# Altium footprint library 7621_cmp.PcbLib: 33 footprints (part 2 of 3)
Each footprint in its own frame and in the unit in brackets; x right, y up, seen from the top. Pads: shape width x height; smd on the part's side, far side on the other; paste and mask are expansions set on the pad; w line width, h text height; cw(c..) or ccw(c..) is an arc to the next point about the centre after c.
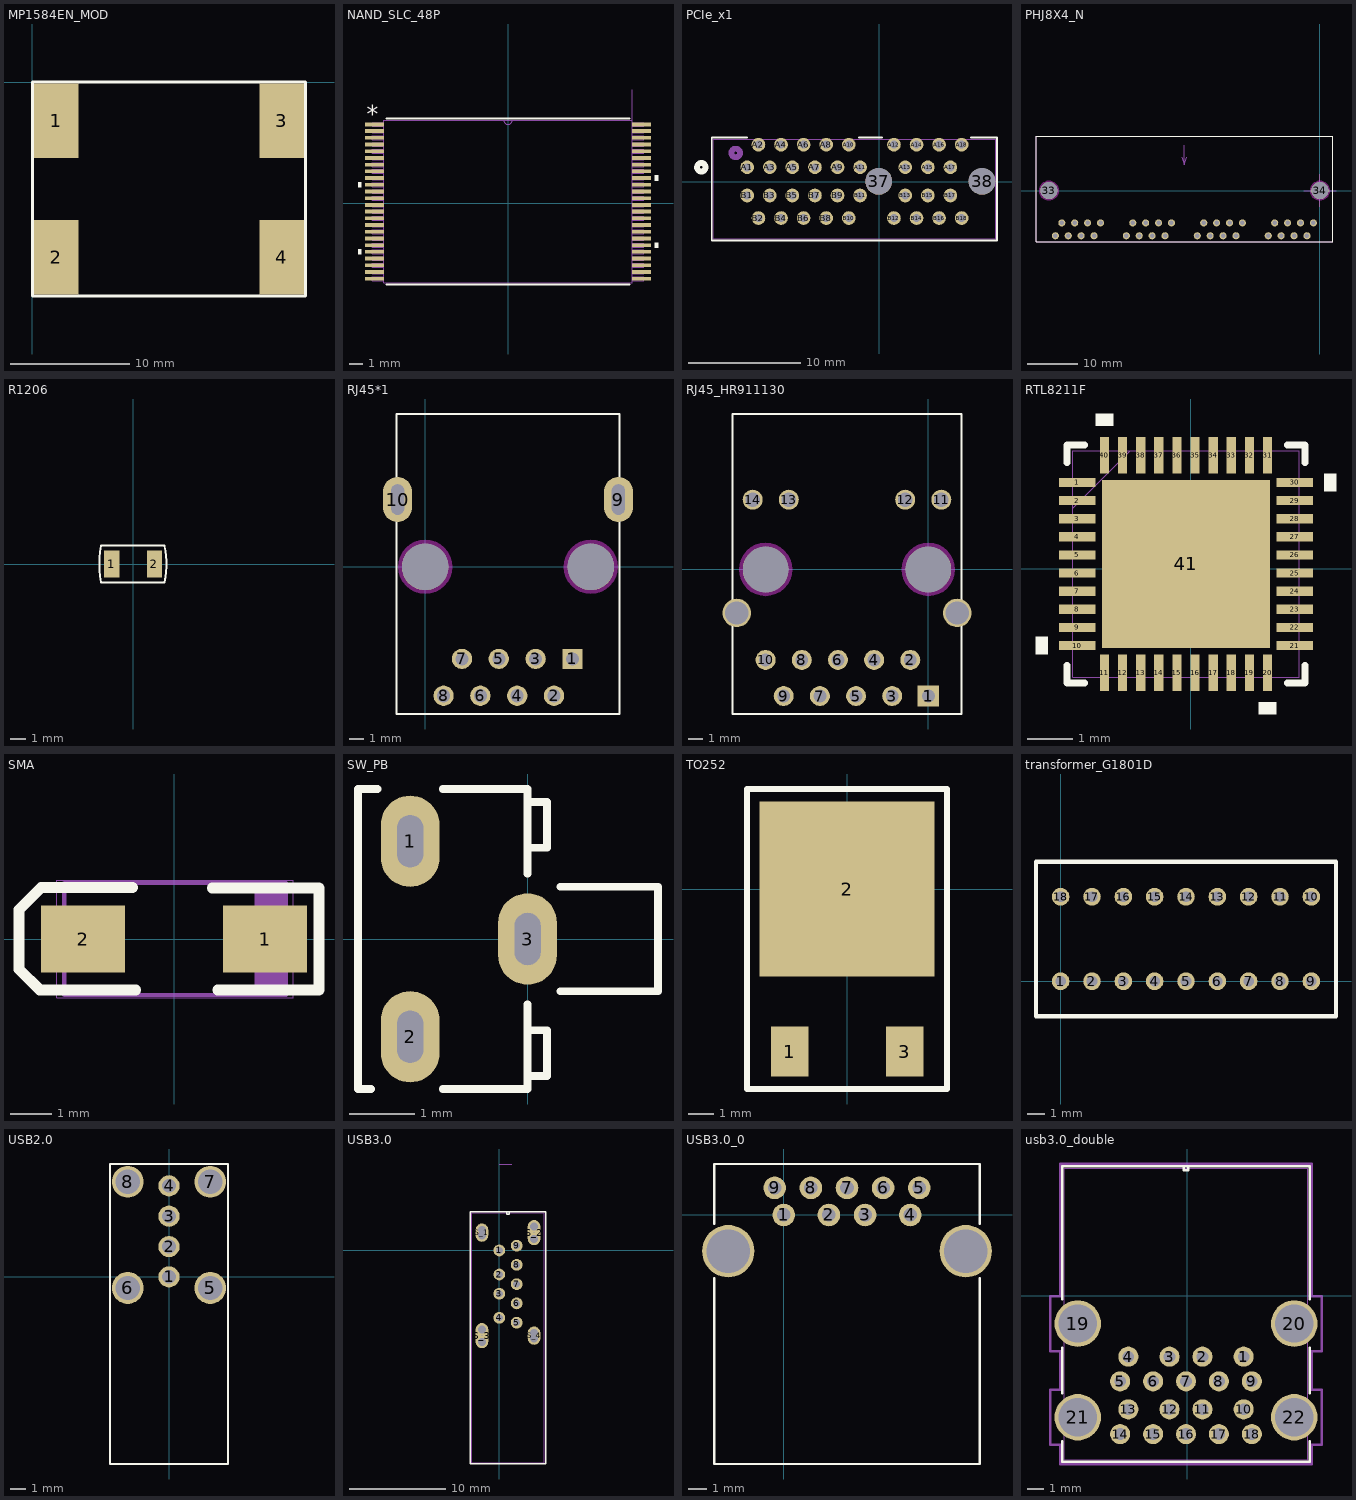
[diagram p1: the footprints below, top view; thin cyan lines are the x and y axes]

## MP1584EN_MOD [mm]
pads (4):
  rect 3.75x6.25 smd paste+0 mask+0: 1(2,-3.25) 2(2,-14.75) 3(21,-3.25) 4(21,-14.75)
Top Overlay:
  lines w0.254: 0,-18 0,0 23,0 23,-18 0,-18

## NAND_SLC_48P [mil]
pads (48):
  rect 56.15x11 smd paste+0 mask+0: 1(-392.08,231.38) 2(-392.08,211.69) 3(-392.08,192.01) 4(-392.08,172.32) 5(-392.08,152.64) 6(-392.08,132.95) 7(-392.08,113.27) 8(-392.08,93.58) 9(-392.08,73.9) 10(-392.08,54.21) 11(-392.08,34.53) 12(-392.08,14.84) 13(-392.08,-4.84) 14(-392.08,-24.53) 15(-392.08,-44.21) 16(-392.08,-63.9) 17(-392.08,-83.58) 18(-392.08,-103.27) 19(-392.08,-122.95) 20(-392.08,-142.64) 21(-392.08,-162.32) 22(-392.08,-182.01) 23(-392.08,-201.69) 24(-392.08,-221.38) 25(392.08,-221.38) 26(392.08,-201.69) 27(392.08,-182.01) 28(392.08,-162.32) 29(392.08,-142.64) 30(392.08,-122.95) 31(392.08,-103.27) 32(392.08,-83.58) 33(392.08,-63.9) 34(392.08,-44.21) 35(392.08,-24.53) 36(392.08,-4.84) 37(392.08,14.84) 38(392.08,34.53) 39(392.08,54.21) 40(392.08,73.9) 41(392.08,93.58) 42(392.08,113.27) 43(392.08,132.95) 44(392.08,152.64) 45(392.08,172.32) 46(392.08,192.01) 47(392.08,211.69) 48(392.08,231.38)
Top Overlay:
  region: -430.15,61.71 -440.15,61.71 -440.15,46.71 -430.15,46.71
  region: -430.15,-135.14 -440.15,-135.14 -440.15,-150.14 -430.15,-150.14
  region: 430.15,-115.45 440.15,-115.45 440.15,-130.45 430.15,-130.45
  region: 430.15,81.4 440.15,81.4 440.15,66.4 430.15,66.4
  lines w6: -357.08,-238 357.08,-238 ; -357.08,248 357.08,248
  text "*" at -414.58,237.38 h50
Mechanical 7:
  lines w1: 364,5 364,333
Mechanical 13:
  drawing of 197 lines, arcs and shapes, not listed
3D body: height 10, standoff 0, extent 0,5 10,15

## PCIe_x1 [mm]
pads (38):
  round 2.362 hole 2.362 unplated: 37(-0.034,0.02) 38(9.116,0.02)
  round 1.21 hole 0.711 mask+0: A1(-11.684,1.27) A2(-10.684,3.27) A3(-9.684,1.27) A4(-8.684,3.27) A5(-7.684,1.27) A6(-6.684,3.27) A7(-5.684,1.27) A8(-4.684,3.27) A9(-3.684,1.27) A10(-2.684,3.27) A11(-1.684,1.27) A12(1.316,3.27) A13(2.316,1.27) A14(3.316,3.27) A15(4.316,1.27) A16(5.316,3.27) A17(6.316,1.27) A18(7.316,3.27) B1(-11.684,-1.23) B2(-10.684,-3.23) B3(-9.684,-1.23) B4(-8.684,-3.23) B5(-7.684,-1.23) B6(-6.684,-3.23) B7(-5.684,-1.23) B8(-4.684,-3.23) B9(-3.684,-1.23) B10(-2.684,-3.23) B11(-1.684,-1.23) B12(1.316,-3.23) B13(2.316,-1.23) B14(3.316,-3.23) B15(4.316,-1.23) B16(5.316,-3.23) B17(6.316,-1.23) B18(7.316,-3.23)
Top Overlay:
  circle w0.508: c-15.748,1.27 r0.381
  lines w0.152: -11.684,3.897 -14.811,3.897 -14.811,-5.207 10.443,-5.207 10.443,3.897 8.145,3.897 ; -1.778,3.897 0.254,3.897
Bottom Overlay:
  circle w0.508: c-15.748,1.27 r0.381
Mechanical 13:
  circle w0.508: c-12.7,2.54 r0.381
  lines w0.025: -14.684,-5.08 -14.684,3.77 10.316,3.77 10.316,-5.08 -14.684,-5.08
3D body: height 0.25, standoff 0, extent -11.684,1.27 -11.43,1.524

## PHJ8X4_N [mil]
height 525
pads (34):
  round 55 hole 35: 1(-50,-250) 2(-100,-350) 3(-150,-250) 4(-200,-350) 5(-250,-250) 6(-300,-350) 7(-350,-250) 8(-400,-350) 9(-600,-250) 10(-650,-350) 11(-700,-250) 12(-750,-350) 13(-800,-250) 14(-850,-350) 15(-900,-250) 16(-950,-350) 17(-1150,-250) 18(-1200,-350) 19(-1250,-250) 20(-1300,-350) 21(-1350,-250) 22(-1400,-350) 23(-1450,-250) 24(-1500,-350) 25(-1700,-250) 26(-1750,-350) 27(-1800,-250) 28(-1850,-350) 29(-1900,-250) 30(-1950,-350) 31(-2000,-250) 32(-2050,-350)
  round 132 hole 132 unplated: 33(-2100,0) 34(0,0)
Top Overlay:
  lines w5: -2200,-395 100,-395 100,420 -2200,420 -2200,-395
Keep-Out Layer:
  pour cut-out: -2023.63,0 -2025.1,14.9 -2029.45,29.22 -2036.5,42.43 -2046,54 -2057.57,63.5 -2070.78,70.55 -2085.1,74.9 -2100,76.37 -2114.9,74.9 -2129.22,70.55 -2142.43,63.5 -2154,54 -2163.5,42.43 -2170.55,29.22 -2174.9,14.9 -2176.37,0 -2174.9,-14.9 -2170.55,-29.22 -2163.5,-42.43 -2154,-54 -2142.43,-63.5 -2129.22,-70.55 -2114.9,-74.9 -2100,-76.37 -2085.1,-74.9 -2070.78,-70.55 -2057.57,-63.5 -2046,-54 -2036.5,-42.43 -2029.45,-29.22 -2025.1,-14.9
  pour cut-out: 76.37,0 74.9,14.9 70.55,29.22 63.5,42.43 54,54 42.43,63.5 29.22,70.55 14.9,74.9 0,76.37 -14.9,74.9 -29.22,70.55 -42.43,63.5 -54,54 -63.5,42.43 -70.55,29.22 -74.9,14.9 -76.37,0 -74.9,-14.9 -70.55,-29.22 -63.5,-42.43 -54,-54 -42.43,-63.5 -29.22,-70.55 -14.9,-74.9 0,-76.37 14.9,-74.9 29.22,-70.55 42.43,-63.5 54,-54 63.5,-42.43 70.55,-29.22 74.9,-14.9
Mechanical 16:
  lines w5: -1070,260 -1050,200 ; -1050,350 -1050,200 ; -1030,260 -1050,200 ; -124.95,0 125.05,0 ; 0,-125 0,125 ; -2200,-395 -2200,420 100,420 100,-395 -2200,-395

## R1206 [mm]
height 1.2
pads (2):
  rect 1x1.8 smd: 1(-1.4,0) 2(1.4,0)
Top Overlay:
  lines w0.127: -2.1,-1.2 2.05,-1.2 ; -2.1,1.2 2.05,1.2 ; -2.1,-1.201 cw(c5,0) -2.1,1.201 ; 2.049,1.204 cw(c-2.642,0) 2.051,-1.196

## RJ45*1 [mm]
pads (12):
  rect 1.4x1.4 / inner round 1.4 / far side rect 1.4x1.4 hole 0.9: 1(10.16,-6.35)
  round 1.4 hole 0.9: 2(8.89,-8.89) 3(7.62,-6.35) 4(6.35,-8.89) 5(5.08,-6.35) 6(3.81,-8.89) 7(2.54,-6.35) 8(1.27,-8.89)
  oval 2x3.1 hole 0.9 slot 2.1 at 90 deg: 9(13.335,4.65) 10(-1.905,4.65)
  round 3.2 hole 3.2 unplated: ""(0,0) ""(11.43,0)
Top Overlay:
  lines w0.127: -1.985,-10.15 13.415,-10.15 13.415,10.55 -1.985,10.55 -1.985,-10.15
Keep-Out Layer:
  pour cut-out: 9.567,0 9.603,-0.363 9.709,-0.713 9.881,-1.035 10.113,-1.317 10.395,-1.549 10.717,-1.721 11.067,-1.827 11.43,-1.863 11.793,-1.827 12.143,-1.721 12.465,-1.549 12.747,-1.317 12.979,-1.035 13.151,-0.713 13.257,-0.363 13.293,0 13.257,0.363 13.151,0.713 12.979,1.035 12.747,1.317 12.465,1.549 12.143,1.721 11.793,1.827 11.43,1.863 11.067,1.827 10.717,1.721 10.395,1.549 10.113,1.317 9.881,1.035 9.709,0.713 9.603,0.363
  pour cut-out: -1.863,0 -1.827,-0.363 -1.721,-0.713 -1.549,-1.035 -1.317,-1.317 -1.035,-1.549 -0.713,-1.721 -0.363,-1.827 0,-1.863 0.363,-1.827 0.713,-1.721 1.035,-1.549 1.317,-1.317 1.549,-1.035 1.721,-0.713 1.827,-0.363 1.863,0 1.827,0.363 1.721,0.713 1.549,1.035 1.317,1.317 1.035,1.549 0.713,1.721 0.363,1.827 0,1.863 -0.363,1.827 -0.713,1.721 -1.035,1.549 -1.317,1.317 -1.549,1.035 -1.721,0.713 -1.827,0.363

## RJ45_HR911130 [mm]
pads (18):
  rect 1.5x1.5 hole 0.9: 1(0,-8.89)
  round 1.4 hole 0.9: 2(-1.27,-6.35) 3(-2.54,-8.89) 4(-3.81,-6.35) 5(-5.08,-8.89) 6(-6.35,-6.35) 7(-7.62,-8.89) 8(-8.89,-6.35) 9(-10.16,-8.89) 10(-11.43,-6.35)
  round 1.4 hole 1.03: 11(0.91,4.9) 12(-1.63,4.9) 13(-9.8,4.9) 14(-12.34,4.9)
  round 2 hole 1.63: ""(-13.46,-3.05)
  round 3.2 hole 3.2 unplated: ""(-11.43,0) ""(0,0)
  round 2 hole 1.63 unplated: ""(2.03,-3.05)
Top Overlay:
  lines w0.127: -13.765,-10.15 2.335,-10.15 2.335,10.92 -13.765,10.92 -13.765,-10.15
Keep-Out Layer:
  pour cut-out: -1.863,0 -1.827,-0.363 -1.721,-0.713 -1.549,-1.035 -1.317,-1.317 -1.035,-1.549 -0.713,-1.721 -0.363,-1.827 0,-1.863 0.363,-1.827 0.713,-1.721 1.035,-1.549 1.317,-1.317 1.549,-1.035 1.721,-0.713 1.827,-0.363 1.863,0 1.827,0.363 1.721,0.713 1.549,1.035 1.317,1.317 1.035,1.549 0.713,1.721 0.363,1.827 0,1.863 -0.363,1.827 -0.713,1.721 -1.035,1.549 -1.317,1.317 -1.549,1.035 -1.721,0.713 -1.827,0.363
  pour cut-out: -13.293,0 -13.257,-0.363 -13.151,-0.713 -12.979,-1.035 -12.747,-1.317 -12.465,-1.549 -12.143,-1.721 -11.793,-1.827 -11.43,-1.863 -11.067,-1.827 -10.717,-1.721 -10.395,-1.549 -10.113,-1.317 -9.881,-1.035 -9.709,-0.713 -9.603,-0.363 -9.567,0 -9.603,0.363 -9.709,0.713 -9.881,1.035 -10.113,1.317 -10.395,1.549 -10.717,1.721 -11.067,1.827 -11.43,1.863 -11.793,1.827 -12.143,1.721 -12.465,1.549 -12.747,1.317 -12.979,1.035 -13.151,0.713 -13.257,0.363

## RTL8211F [mm]
pads (41):
  rect 0.808x0.204 smd paste+0 mask+0: 1(-2.498,1.9) 2(-2.498,1.5) 3(-2.498,1.1) 4(-2.498,0.7) 5(-2.498,0.3) 6(-2.498,-0.1) 7(-2.498,-0.5) 8(-2.498,-0.9) 9(-2.498,-1.3) 10(-2.498,-1.7) 21(2.298,-1.7) 22(2.298,-1.3) 23(2.298,-0.9) 24(2.298,-0.5) 25(2.298,-0.1) 26(2.298,0.3) 27(2.298,0.7) 28(2.298,1.1) 29(2.298,1.5) 30(2.298,1.9)
  rect 0.204x0.808 smd paste+0 mask+0: 11(-1.9,-2.298) 12(-1.5,-2.298) 13(-1.1,-2.298) 14(-0.7,-2.298) 15(-0.3,-2.298) 16(0.1,-2.298) 17(0.5,-2.298) 18(0.9,-2.298) 19(1.3,-2.298) 20(1.7,-2.298) 31(1.7,2.498) 32(1.3,2.498) 33(0.9,2.498) 34(0.5,2.498) 35(0.1,2.498) 36(-0.3,2.498) 37(-0.7,2.498) 38(-1.1,2.498) 39(-1.5,2.498) 40(-1.9,2.498)
  rect 3.708x3.708 smd paste-1.841 mask+0: 41(-0.1,0.1)
Top Overlay:
  region: -3.156,-1.509 -3.41,-1.509 -3.41,-1.89 -3.156,-1.89
  region: 1.89,-2.956 1.509,-2.956 1.509,-3.21 1.89,-3.21
  region: 2.956,2.09 3.21,2.09 3.21,1.709 2.956,1.709
  region: -1.709,3.156 -2.09,3.156 -2.09,3.41 -1.709,3.41
  lines w0.152: -2.729,-2.135 -2.729,-2.529 -2.335,-2.529 ; -2.729,2.335 -2.729,2.729 -2.335,2.729 ; 2.135,-2.529 2.529,-2.529 2.529,-2.135 ; 2.135,2.729 2.529,2.729 2.529,2.335
Top Paste:
  region: -0.2,1.854 -1.854,1.854 -1.854,0.2 -0.2,0.2
  region: -0.2,0 -1.854,0 -1.854,-1.654 -0.2,-1.654
  region: 1.654,1.854 0,1.854 0,0.2 1.654,0.2
  region: 1.654,0 0,0 0,-1.654 1.654,-1.654
Mechanical 13:
  lines w0.025: -2.602,1.332 -1.332,2.602 ; -2.602,-2.402 2.402,-2.402 2.402,2.602 -2.602,2.602 -2.602,-2.402 ; -2.602,-1.827 -2.602,-1.573 -2.602,-1.827 ; -2.602,-1.427 -2.602,-1.173 -2.602,-1.427 ; -2.602,-1.027 -2.602,-0.773 -2.602,-1.027 ; -2.602,-0.627 -2.602,-0.373 -2.602,-0.627 ; -2.602,-0.227 -2.602,0.027 -2.602,-0.227 ; -2.602,0.173 -2.602,0.427 -2.602,0.173 ; -2.602,0.573 -2.602,0.827 -2.602,0.573 ; -2.602,0.973 -2.602,1.227 -2.602,0.973 ; -2.602,1.373 -2.602,1.627 -2.602,1.373 ; -2.602,1.773 -2.602,2.027 -2.602,1.773 ; -2.027,-2.402 -1.773,-2.402 -2.027,-2.402 ; -2.027,2.602 -1.773,2.602 -2.027,2.602 ; -1.627,-2.402 -1.373,-2.402 -1.627,-2.402 ; -1.627,2.602 -1.373,2.602 -1.627,2.602 ; -1.227,-2.402 -0.973,-2.402 -1.227,-2.402 ; -1.227,2.602 -0.973,2.602 -1.227,2.602 ; -0.827,-2.402 -0.573,-2.402 -0.827,-2.402 ; -0.827,2.602 -0.573,2.602 -0.827,2.602 ; -0.427,-2.402 -0.173,-2.402 -0.427,-2.402 ; -0.427,2.602 -0.173,2.602 -0.427,2.602 ; -0.027,-2.402 0.227,-2.402 -0.027,-2.402 ; -0.027,2.602 0.227,2.602 -0.027,2.602 ; 0.373,-2.402 0.627,-2.402 0.373,-2.402 ; 0.373,2.602 0.627,2.602 0.373,2.602 ; 0.773,-2.402 1.027,-2.402 0.773,-2.402 ; 0.773,2.602 1.027,2.602 0.773,2.602 ; 1.173,-2.402 1.427,-2.402 1.173,-2.402 ; 1.173,2.602 1.427,2.602 1.173,2.602 ; 1.573,-2.402 1.827,-2.402 1.573,-2.402 ; 1.573,2.602 1.827,2.602 1.573,2.602 ; 2.402,-1.827 2.402,-1.573 2.402,-1.827 ; 2.402,-1.427 2.402,-1.173 2.402,-1.427 ; 2.402,-1.027 2.402,-0.773 2.402,-1.027 ; 2.402,-0.627 2.402,-0.373 2.402,-0.627 ; 2.402,-0.227 2.402,0.027 2.402,-0.227 ; 2.402,0.173 2.402,0.427 2.402,0.173 ; 2.402,0.573 2.402,0.827 2.402,0.573 ; 2.402,0.973 2.402,1.227 2.402,0.973 ; 2.402,1.373 2.402,1.627 2.402,1.373 ; 2.402,1.773 2.402,2.027 2.402,1.773
3D body: height 0.25, standoff 0, extent -0.1,0.1 0.154,0.354

## SMA [mm]
height 1.99
pads (2):
  rect 2x1.6 smd: 1(2.175,0) 2(-2.175,0)
Top Overlay:
  lines w0.254: -0.991,1.23 -3.175,1.23 -3.705,0.7 -3.705,-0.72 -3.205,-1.22 -0.915,-1.22 ; 0.914,1.22 3.465,1.22 3.465,-1.22 1.041,-1.22
Mechanical 15:
  lines w0.1: 1.973,-1.335 1.973,1.335 ; 2.072,-1.335 2.072,1.335 ; 2.173,-1.335 2.173,1.335 ; 2.273,-1.335 2.273,1.335 ; 2.373,-1.335 2.373,1.335 ; 2.473,-1.335 2.473,1.335 ; 2.573,-1.335 2.573,1.335 ; -2.623,-1.335 2.673,-1.335 2.673,1.335 -2.623,1.335 -2.623,-1.335
Mechanical 16:
  lines w0.001: -2.805,-1.4 2.855,-1.4 2.855,1.4 -2.805,1.4 -2.805,-1.4
3D body "User Library-DO-214AC(SMA).step": height 2.44, standoff 0.16, extent -2.718,-1.397 2.768,1.397

## SW_PB [mm]
pads (3):
  oval 0.9x1.4 hole 0.4 slot 0.8 at 90 deg: 1(-1.8,1.5) 2(-1.8,-1.5) 3(0,0)
Top Overlay:
  lines w0.12: -2.4,-2.3 -2.6,-2.3 -2.6,2.3 -2.3,2.3 ; -1.3,-2.3 0,-2.3 0,-1 ; -1.3,2.3 0,2.3 0,1 ; 0,-2.1 0.3,-2.1 0.3,-1.4 0,-1.4 ; 0,1.4 0.3,1.4 0.3,2.1 0,2.1 ; 0.5,-0.8 2,-0.8 2,0.8 0.5,0.8

## TO252 [mm]
pads (3):
  rect 1.5x2 smd paste+0 mask+0: 1(-2.3,-6.5) 3(2.3,-6.5)
  rect 7x7 smd paste+0 mask+0: 2(0,0)
Top Overlay:
  lines w0.254: -4,-8 -4,4 4,4 4,-8 -4,-8

## transformer_G1801D [mm]
pads (18):
  round 1 hole 0.6: 1(0,0) 2(1.78,0) 3(3.56,0) 4(5.34,0) 5(7.12,0) 6(8.9,0) 7(10.68,0) 8(12.46,0) 9(14.24,0) 10(14.24,4.8) 11(12.46,4.8) 12(10.68,4.8) 13(8.9,4.8) 14(7.12,4.8) 15(5.34,4.8) 16(3.56,4.8) 17(1.78,4.8) 18(0,4.8)
Top Overlay:
  lines w0.254: -1.4,-2 -1.4,4.8 -1.4,6.8 0,6.8 15.64,6.8 15.64,4.8 15.64,-2 0,-2 -1.4,-2

## USB2.0 [mm]
pads (8):
  round 1.4 hole 0.9: 1(0,0) 2(0,2) 3(0,4) 4(0,6)
  round 2.1 hole 1.6: 5(2.72,-0.73) 6(-2.72,-0.73) 7(2.72,6.27) 8(-2.72,6.27)
Top Overlay:
  lines w0.127: -3.9,-12.33 -3.9,7.44 3.9,7.44 3.9,-12.33 -3.9,-12.33

## USB3.0 [mil]
pads (21):
  round 48 hole 28 mask+0: 1(0,0) 2(0,-98.43) 3(0,-177.17) 4(0,-275.59) 5(70.87,-295.28) 6(70.87,-216.54) 7(70.87,-137.8) 8(70.87,-59.06) 9(70.87,19.68)
  oval 52x75 hole 1 mask+0: S_1(-71.26,72.83) S_4(142.13,-348.43)
  round 32 hole 32 unplated: S_1_H1(-71.26,84.33) S_1_H2(-71.26,61.33) S_2_H1(142.13,98.33) S_2_H2(142.13,47.33) S_3_H1(-71.26,-322.93) S_3_H2(-71.26,-373.93) S_4_H1(142.13,-336.93) S_4_H2(142.13,-359.93)
  oval 52x103 hole 1 mask+0: S_2(142.13,72.83) S_3(-71.26,-348.43)
Top Overlay:
  lines w6: -118.57,-873.46 189.43,-873.46 189.43,158.54 -118.57,158.54 -118.57,-873.46 ; 30.43,148.54 40.43,148.54 40.43,158.54 30.43,158.54 30.43,148.54
Mechanical 7:
  lines w1: 0,353.54 50,353.54
Mechanical 13:
  lines w1: -113.57,-868.46 184.43,-868.46 184.43,153.54 -113.57,153.54 -113.57,-868.46
Multi-Layer:
  lines w32: -71.26,-373.93 -71.26,-322.93 ; -71.26,61.33 -71.26,84.33 ; 142.13,-359.93 142.13,-336.93 ; 142.13,47.33 142.13,98.33
3D body: height 10, standoff 0, extent 0,0 10,10

## USB3.0_0 [mm]
pads (11):
  round 1.25 hole 0.75: 1(0,0) 2(2.5,0) 3(4.5,0) 4(7,0) 5(7.5,1.5) 6(5.5,1.5) 7(3.5,1.5) 8(1.5,1.5) 9(-0.5,1.5)
  round 2.9 hole 2.4: ""(-3.07,-2) ""(10.07,-2)
Top Overlay:
  lines w0.127: -3.85,-3.5 -3.85,-13.78 10.85,-13.78 10.85,-3.5 ; -3.85,-0.5 -3.85,2.82 10.85,2.82 10.85,-0.5

## usb3.0_double [mil]
pads (22):
  round 48 hole 28: 1(135,-145) 2(36.57,-145) 3(-42.17,-145) 4(-140.59,-145) 5(-160.28,-204.06) 6(-81.54,-204.06) 7(-2.79,-204.06) 8(75.95,-204.06) 9(154.69,-204.06) 10(135,-270.98) 11(36.57,-270.98) 12(-42.17,-270.98) 13(-140.6,-270.98) 14(-160.28,-330.04) 15(-81.54,-330.04) 16(-2.79,-330.04) 17(75.95,-330.04) 18(154.69,-330.04)
  round 111 hole 91: 19(-261.46,-66.26) 20(255.87,-66.26) 21(-261.46,-289.88) 22(255.87,-289.88)
Top Overlay:
  lines w6: -298.3,-347.75 -298.3,-396.61 292.7,-396.61 292.7,-347.75 ; -298.3,-232.01 -298.3,-124.13 ; -298.3,-8.39 -298.3,310.39 292.7,310.39 292.7,-8.39 ; 292.7,-232.01 292.7,-124.13 ; -7.8,300.39 2.2,300.39 2.2,310.39 -7.8,310.39 -7.8,300.39
Mechanical 13:
  lines w1: -293.3,-391.61 287.7,-391.61 287.7,305.39 -293.3,305.39 -293.3,-391.61
Mechanical 15:
  lines w6: -326.96,-355.38 -326.96,-224.38 -303.3,-224.38 -303.3,-131.76 -326.96,-131.76 -326.96,-0.76 -303.3,-0.76 -303.3,315.39 297.7,315.39 297.7,-0.76 321.37,-0.76 321.37,-131.76 297.7,-131.76 297.7,-224.38 321.37,-224.38 321.37,-355.38 297.7,-355.38 297.7,-401.61 -303.3,-401.61 -303.3,-355.38 -326.96,-355.38
3D body: height 10, standoff 0, extent 135,-145 145,-135